# Altium footprint library LED.PcbLib: 1 footprints
Each footprint in its own frame and in the unit in brackets; x right, y up, seen from the top. Pads: shape width x height; smd on the part's side, far side on the other; paste and mask are expansions set on the pad; w line width, h text height; cw(c..) or ccw(c..) is an arc to the next point about the centre after c.
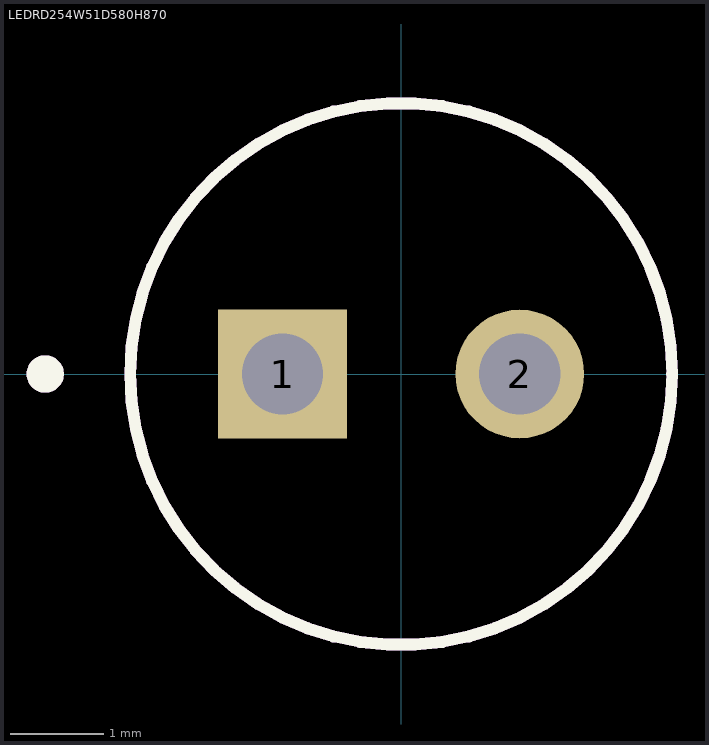
[diagram p0: the footprint, top view; thin cyan lines are the x and y axes]

## LEDRD254W51D580H870 [mm]
height 8.7
pads (2):
  rect 1.378x1.378 / inner round 1.378 / far side rect 1.378x1.378 hole 0.87 mask+0.102: 1(-1.27,0)
  round 1.378 hole 0.87 mask+0.102: 2(1.27,0)
Top Overlay:
  circle w0.127: c0,0 r2.9
  circle w0.2: c-3.81,0 r0.1
Assembly Top:
  circle w0.127: c0,0 r2.9
  circle w0.2: c-3.81,0 r0.1
3D body "step_temp.STEP": height 8.7, standoff -25.4, extent -2.5,-2.9 2.9,2.9